# Altium footprint library TE_5-534998-6.PcbLib: 1 footprints
Each footprint in its own frame and in the unit in brackets; x right, y up, seen from the top. Pads: shape width x height; smd on the part's side, far side on the other; paste and mask are expansions set on the pad; w line width, h text height; cw(c..) or ccw(c..) is an arc to the next point about the centre after c.
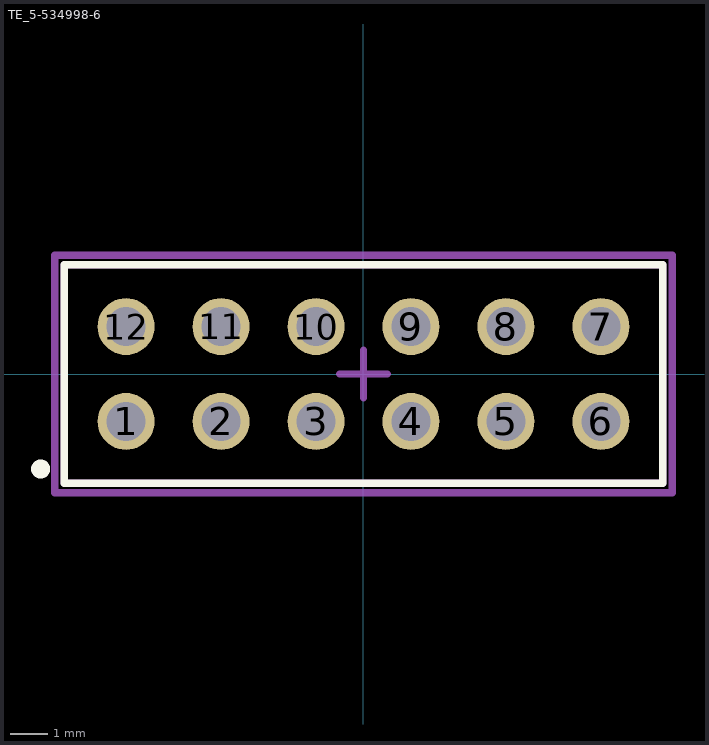
[diagram p0: the footprint, top view; thin cyan lines are the x and y axes]

## TE_5-534998-6 [mil]
pads (12):
  round 60 hole 41: 1(-250,-50) 2(-150,-50) 3(-50,-50) 4(50,-50) 5(150,-50) 6(250,-50) 7(250,50) 8(150,50) 9(50,50) 10(-50,50) 11(-150,50) 12(-250,50)
Top Overlay:
  circle w10: c-340,-100 r5
  lines w7.87: -315,-115 315,-115 315,115 -315,115 -315,-115
Mechanical 15:
  lines w7.87: -25,0 25,0 ; 0,-25 0,25 ; -325,-125 -325,125 325,125 325,-125 -325,-125
Mechanical 17:
  lines w7.87: -315,-115 -315,115 315,115 315,-115 -315,-115
  text ".Designator" at -295,-90 h60
Mechanical 19:
  lines w7.87: -315,-115 -315,115 315,115 315,-115 -315,-115
  text ".Comment" at -275,-85 h60
3D body: height 265, standoff -125, extent -299.99,-98.99 300.01,99